# Altium footprint library PcbParts.PcbLib: 23 footprints (part 2 of 2)
Each footprint in its own frame and in the unit in brackets; x right, y up, seen from the top. Pads: shape width x height; smd on the part's side, far side on the other; paste and mask are expansions set on the pad; w line width, h text height; cw(c..) or ccw(c..) is an arc to the next point about the centre after c.
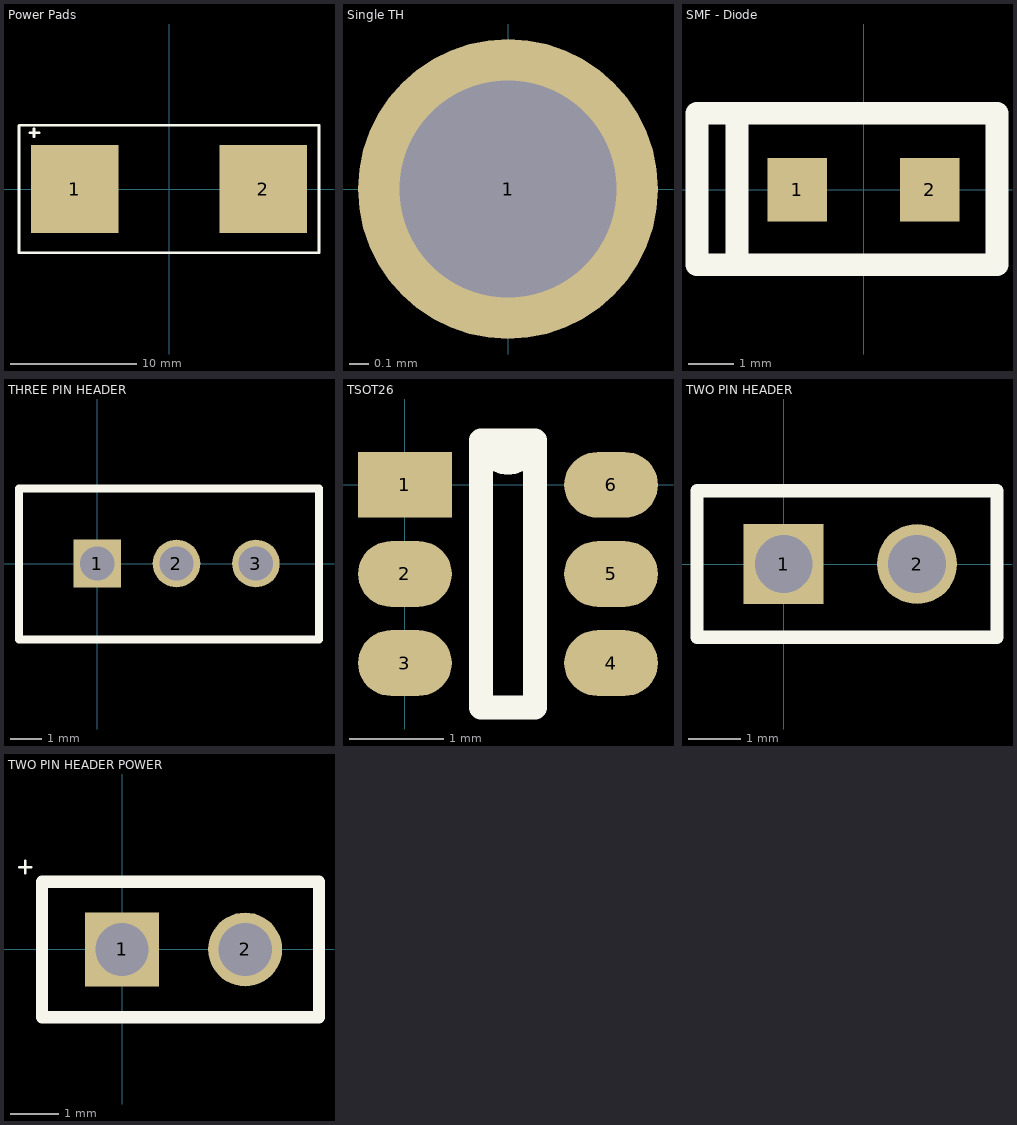
[diagram p1: the footprints below, top view; thin cyan lines are the x and y axes]

## Power Pads [mm]
pads (2):
  rect 7x7 smd: 1(-7.5,0) 2(7.5,0)
Top Overlay:
  lines w0.2: -11.938,-2.5 -11.938,0 -11.938,2.5 ; -10,-5.08 -5,-5.08 5,-5.08 10,-5.08 ; -10,5.08 -5,5.08 5,5.08 10,5.08 ; 11.938,-2.5 11.938,-1.25 11.938,1.25 11.938,2.5
  lines w0.203: -11.938,-2.5 -11.938,-5.08 -10,-5.08 ; -11.938,2.5 -11.938,5.055 -11.913,5.08 -10,5.08 ; -11.1,4.47 -10.338,4.47 ; -10.744,4.166 -10.744,4.801 ; 10,-5.08 11.938,-5.08 11.938,-2.5 ; 10,5.08 11.938,5.08 11.938,2.5

## Single TH [mil]
pads (1):
  round 60 hole 43.31: 1(0,0)

## SMF - Diode [mm]
pads (2):
  rect 1.3x1.4 smd: 1(-1.45,0) 2(1.45,0)
Top Overlay:
  lines w0.5: -2.775,-1.642 -2.775,1.675 ; -3.65,-1.642 -3.65,0.025 -3.65,1.675 2.925,1.675 2.925,-1.642 -3.65,-1.642

## THREE PIN HEADER [mil]
pads (3):
  rect 60x60 hole 43.31: 1(0,0)
  round 60 hole 43.31: 2(100,0) 3(200,0)
Top Overlay:
  lines w10: -98.43,-95.67 279.53,-95.67 279.53,94.49 -98.43,94.49 -98.43,-95.67

## TSOT26 [mm]
pads (6):
  rect 1x0.7 smd: 1(0,0)
  oval 1x0.7 smd: 2(0,-0.95) 3(0,-1.9) 4(2.199,-1.9) 5(2.199,-0.95) 6(2.199,0)
Top Overlay:
  lines w0.254: 0.81,-2.375 1.389,-2.375 1.389,0.475 0.862,0.475 ccw(c1.099,0.475) 1.337,0.475 0.81,0.475 0.81,-0.238 0.81,-1.663 0.81,-2.375

## TWO PIN HEADER [mil]
pads (2):
  rect 60x60 hole 43.31: 1(0,0)
  round 60 hole 43.31: 2(100,0)
Top Overlay:
  lines w10: -65,-55 160,-55 160,55 -65,55 -65,-55

## TWO PIN HEADER POWER [mil]
pads (2):
  rect 60x60 hole 43.31: 1(0,0)
  round 60 hole 43.31: 2(100,0)
Top Overlay:
  lines w2: -83.74,66.93 -73.74,66.93 ; -78.74,61.93 -78.74,71.93
  lines w10: -65,-55 160,-55 160,55 -65,55 -65,-55